# Altium schematic symbol library BatterySymbol.SchLib: 1 symbol
Pins are listed as number, name and electrical type; pins without a type are passive.

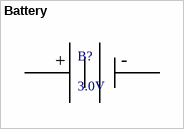
[diagram p0: symbol Battery]

## Battery
designator B?, comment 3.0V
footprint BU2032SM-JJ-GTR
pins: 1 Plus, 2 Minus
text: +; -